# Altium footprint library SOD123F.PcbLib: 1 footprints
Each footprint in its own frame and in the unit in brackets; x right, y up, seen from the top. Pads: shape width x height; smd on the part's side, far side on the other; paste and mask are expansions set on the pad; w line width, h text height; cw(c..) or ccw(c..) is an arc to the next point about the centre after c.
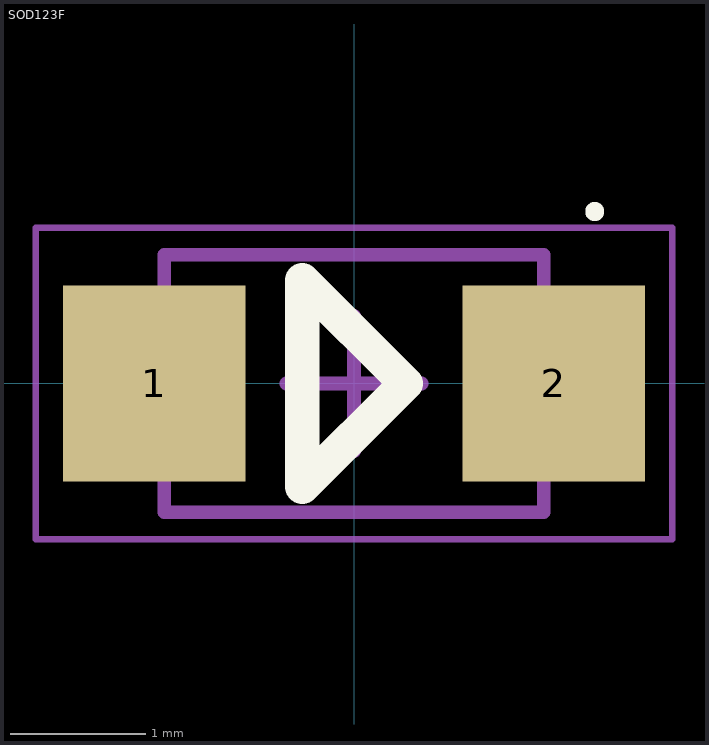
[diagram p0: the footprint, top view; thin cyan lines are the x and y axes]

## SOD123F [mm] "SODFL, 2-Leads, Body 1.80x3.50mm, IPC Low Density"
height 1.15
pads (2):
  rect 1.35x1.45 smd: 1(-1.475,0) 2(1.475,0)
Top Overlay:
  circle w0.1: c1.778,1.27 r0.02
  lines w0.254: -0.381,-0.762 0.381,0 -0.381,0.762 -0.381,0.635 -0.381,-0.762
Mechanical 13:
  lines w0.1: -1.4,-0.95 1.4,-0.95 1.4,0.95 -1.4,0.95 -1.4,-0.95
Mechanical 15:
  lines w0.05: -2.35,-1.15 2.35,-1.15 2.35,1.15 -2.35,1.15 -2.35,-1.15
  lines w0.1: -0.5,0 0.5,0 ; 0,-0.5 0,0.5
3D body "SODFL350X115-2M.step": height 1.15, standoff 0, extent -1.75,-0.95 1.75,0.95